# Altium footprint library C_1210.PCBLIB: 1 footprints
Each footprint in its own frame and in the unit in brackets; x right, y up, seen from the top. Pads: shape width x height; smd on the part's side, far side on the other; paste and mask are expansions set on the pad; w line width, h text height; cw(c..) or ccw(c..) is an arc to the next point about the centre after c.
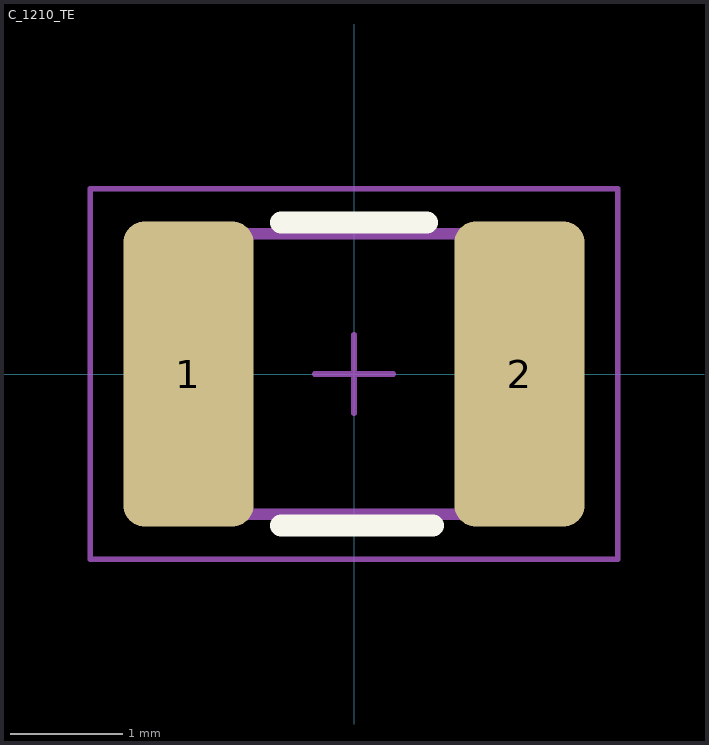
[diagram p0: the footprint, top view; thin cyan lines are the x and y axes]

## C_1210_TE [mm]
height 2.5
pads (2):
  rrect33% 1.16x2.72 smd: 1(-1.475,0) 2(1.475,0)
Top Overlay:
  lines w0.2: -0.65,-1.35 0.7,-1.35 ; -0.65,1.35 0.65,1.35
Top Assembly:
  lines w0.1: -1,-1.25 -1,1.25 ; 1,-1.26 1,1.24 ; -1.6,-1.25 -1.6,1.25 1.6,1.25 1.6,-1.25 -1.6,-1.25
Top Courtyard:
  lines w0.05: -2.35,-1.65 2.35,-1.65 2.35,1.65 -2.35,1.65 -2.35,-1.65
Top Designator:
  text ".Designator" at -1.175,-0.425 h0.7
Top Component Center:
  lines w0.05: -0.35,0 0.35,0 ; 0,-0.35 0,0.35
3D body "User Library-CAPC3225X___CAPC3225X250N.STEP": height 2.52, standoff 0, extent -1.6,-1.26 1.6,1.26